# Altium schematic symbol library SCH - POWER - SWITCHMODE - TI LMR62421 SOT-23-5.SCHLIB: 1 symbol
Pins are listed as number, name and electrical type; pins without a type are passive.

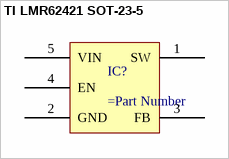
[diagram p0: symbol TI LMR62421 SOT-23-5]

## TI LMR62421 SOT-23-5
designator IC?
pins: 1 SW, 2 GND, 3 FB, 4 EN, 5 VIN